# Altium schematic symbol library 1EDN7550UXTSA1.SchLib: 1 symbol
Pins are listed as number, name and electrical type; pins without a type are passive.

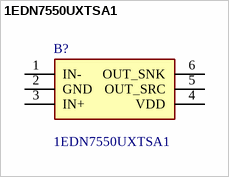
[diagram p0: symbol 1EDN7550UXTSA1]

## 1EDN7550UXTSA1
designator B?
IC GATE DRVR HIGH-SIDE 6XFDFN; Manufacturer_Name: Infineon; Geometry.Height: 0.4mm; Manufacturer_Part_Number: 1EDN7550UXTSA1; Mouser Part Number: 726-1EDN7550UXTSA1; Mouser Price/Stock: https://www.mouser.co.uk/ProductDetail/Infineon-Technologies/1EDN7550UXTSA1?qs=vHuUswq2%252BsxVuatVX7bkPw%3D%3D; Arrow Part Number: 1EDN7550UXTSA1; Arrow Price/Stock: https://www.arrow.com/en/products/1edn7550uxtsa1/infineon-technologies-ag; Datasheet Link: https://www.infineon.com/dgdl/Infineon-1EDN7550U-DataSheet-v02_02-EN.pdf?fileId=5546d462700c0ae60170522057e14b61
footprint 1EDN7550UXTSA1
pins: 1 IN-, 2 GND, 3 IN+, 4 VDD, 5 OUT_SRC, 6 OUT_SNK